# Altium integrated library RX5808.IntLib: 1 symbol
Pins are listed as number, name and electrical type; pins without a type are passive.

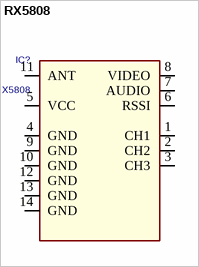
[diagram p0: symbol RX5808]

## RX5808
designator IC?
ID: RX5808; PDF: http://www.banggood.com/FPV-5_8G-Wireless-Audio-Video-Receiving-Module-RX5808-p-84775.html; BUY_LINK: http://www.banggood.com/FPV-5_8G-Wireless-Audio-Video-Receiving-Module-RX5808-p-84775.html; PRICE: 11.0000
footprint RX5808
pins: 1 CH1, 2 CH2, 3 CH3, 4 GND, 5 VCC, 6 RSSI, 7 AUDIO, 8 VIDEO, 9 GND, 10 GND, 11 ANT, 12 GND, 13 GND, 14 GND